# Altium schematic symbol library TL7660 Voltage Inverter.SchLib: 1 symbol
Pins are listed as number, name and electrical type; pins without a type are passive.

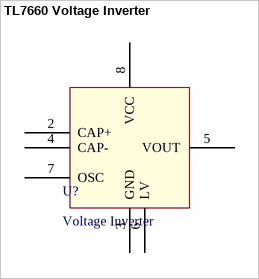
[diagram p0: symbol TL7660 Voltage Inverter]

## TL7660 Voltage Inverter
designator U?, comment Voltage Inverter
CMOS Voltage Inverter; Manufacturer Part No.: TL7660CDGKR; Digi-Key Part No.: 296-21855-1-ND
footprint TL7660 Voltage Inverter SOP
pins: 2 CAP+, 3 GND, 4 CAP-, 5 VOUT, 6 LV, 7 OSC, 8 VCC